# Altium footprint library transistor-fet.PCBLIB: 45 footprints (part 1 of 3)
Each footprint in its own frame and in the unit in brackets; x right, y up, seen from the top. Pads: shape width x height; smd on the part's side, far side on the other; paste and mask are expansions set on the pad; w line width, h text height; cw(c..) or ccw(c..) is an arc to the next point about the centre after c.
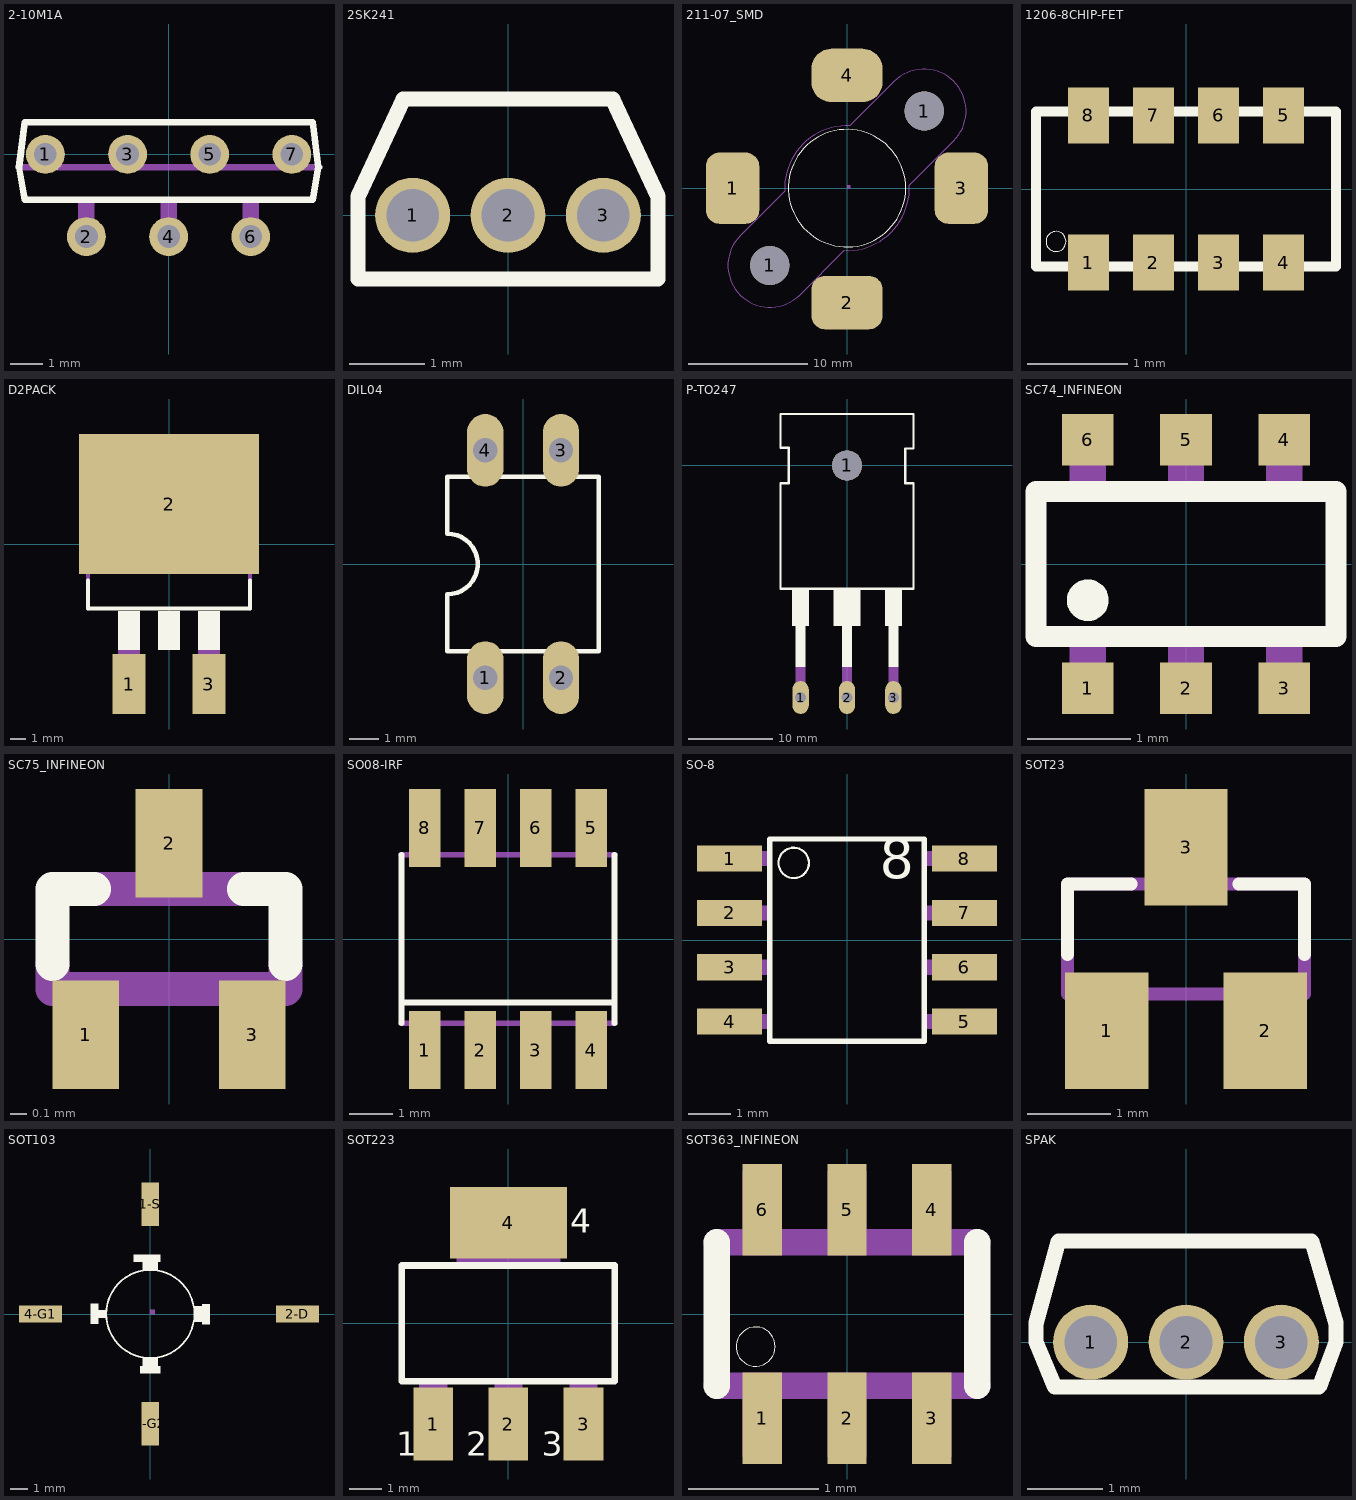
[diagram p0: the footprints below, top view; thin cyan lines are the x and y axes]

## 2-10M1A [mil]
pads (7):
  round 47.24 hole 27.56: 1(-150,0) 2(-100,-100) 3(-50,0) 4(0,-100) 5(50,0) 6(100,-100) 7(150,0)
Top Overlay:
  lines w8: 183.07,-15.75 182.09,-15.75 ; 182.09,-15.75 175.2,-55.12 -175.2,-55.12 -182.09,-15.75 -175.2,39.37 175.2,39.37 182.09,-15.75
Mechanical 16:
  rectangle: -110,-105 -90,-55
  rectangle: -10,-105 10,-55
  rectangle: 90,-105 110,-55
  lines w8: -182.09,-15.75 182.09,-15.75

## 2SK241 [mm]
pads (3):
  round 1 hole 0.7: 1(-1.27,0) 2(0,0) 3(1.27,0)
Top Overlay:
  lines w0.203: -1.4,1.55 1.4,1.55 ; -1.393,1.552 -2,0.25 -2,-0.85 2,-0.85 2,0.25 1.393,1.552

## 211-07_SMD [mm]
pads (6):
  rrect50% 4.5x6 smd: 1(-9.64,0) 3(9.64,0)
  round 3.3 hole 3.3: 1(-6.505,-6.505) 1(6.505,6.505)
  rrect50% 6x4.5 smd: 2(0,-9.64)
  rrect75% 6x4.5 smd: 4(0,9.505)
Top Overlay:
  circle w0: c0,0 r4.95
Bottom Overlay:
  circle w0: c0,0 r4.95
  lines w0.203: -8.715,-4.296 4.313,8.733 cw(c6.523,6.523) 8.715,4.296 -4.296,-8.715 cw(c-6.505,-6.505) -8.715,-4.296
Mechanical 1:
  lines w0: -9,-4 -5.25,-0.25 cw(c0.001,-0.001) 0.25,5.25 4,9 cw(c6.5,6.5) 9,4 5.25,0.25 cw(c-0.001,0.001) -0.25,-5.25 -4,-9 cw(c-6.5,-6.5) -9,-4
Mechanical 16:
  region: 0,0 0.254,0 0.254,0.254 0,0.254
  region: 0,0 0.254,0 0.254,0.254 0,0.254
  region: 0,0 0.254,0 0.254,0.254 0,0.254
  region: 0,0 0.254,0 0.254,0.254 0,0.254

## 1206-8CHIP-FET [mil]
pads (8):
  rect 15.98x22.05 smd: 1(-38.39,-29.03) 2(-12.8,-29.03) 3(12.8,-29.03) 4(38.39,-29.03) 5(38.39,29.03) 6(12.8,29.03) 7(-12.8,29.03) 8(-38.39,29.03)
Top Overlay:
  circle w0: c-51.18,-20.67 r3.94
  lines w4: -59.06,-30.51 59.06,-30.51 59.06,30.51 -59.06,30.51 -59.06,-30.51

## D2PACK [mil]
pads (3):
  rect 82x150 smd: 1(-100,-350) 3(100,-350)
  rect 450x350 smd: 2(0,100)
Top Overlay:
  rectangle: -128,-265 -72,-167
  rectangle: 72,-265 128,-167
  rectangle: -28,-265 28,-167
  lines w10: -202,-91 -202,-161 202,-161 202,-91
Mechanical 16:
  rectangle: -122,-375 -78,-319
  rectangle: -128,-321 -72,-265
  rectangle: 78,-375 122,-319
  rectangle: 72,-321 128,-265
  lines w10: -202,-161 -202,175 ; 202,-161 202,175 ; -202,175 -202,185 -133,229 123,229 202,175 ; -202,175 202,175

## DIL04 [mil]
pads (4):
  oval 48x96 hole 32: 1(-50,-150) 2(50,-150) 3(50,150) 4(-50,150)
Top Overlay:
  lines w6: -100,-115 100,-115 100,115 -100,115 -100,40 cw(c-100,0) -100,-40 -100,-115

## P-TO247 [mil]
pads (4):
  oval 76.77x153.54 hole 51.18: 1(-216.54,-1082.68) 2(0,-1082.68) 3(216.54,-1082.68)
  round 141.73 hole 141.73: 1(0,0)
Top Overlay:
  rectangle: -62.99,-748.03 62.99,-578.74
  rectangle: -255.91,-748.03 -177.17,-578.74
  rectangle: 177.17,-748.03 255.91,-578.74
  rectangle: -240.16,-940.94 -192.91,-748.03
  rectangle: -23.62,-940.94 23.62,-748.03
  rectangle: 192.91,-940.94 240.16,-748.03
  lines w10: -311.02,-574.8 311.02,-574.8 311.02,-82.68 271.65,-82.68 271.65,78.74 311.02,78.74 311.02,240.16 -311.02,240.16 -311.02,82.68 -271.65,82.68 -271.65,-82.68 -311.02,-82.68 -311.02,-574.8
Mechanical 16:
  rectangle: -23.62,-1082.68 23.62,-940.94
  rectangle: 192.91,-1082.68 240.16,-940.94
  rectangle: -240.16,-1082.68 -192.91,-940.94

## SC74_INFINEON [mil]
pads (6):
  rect 19.69x19.69 smd: 1(-37.4,-47.24) 2(0,-47.24) 3(37.4,-47.24) 4(37.4,47.24) 5(0,47.24) 6(-37.4,47.24)
Top Overlay:
  circle w8: c-37.4,-13.78 r3.94
  lines w8: -57.09,-27.56 -57.09,27.56 57.09,27.56 57.09,-27.56 -57.09,-27.56
Mechanical 16:
  rectangle: -44.29,-51.18 -30.51,-30.51
  rectangle: -6.89,-51.18 6.89,-30.51
  rectangle: 30.51,-51.18 44.29,-30.51
  rectangle: 30.51,30.51 44.29,51.18
  rectangle: -6.89,30.51 6.89,51.18
  rectangle: -44.29,30.51 -30.51,51.18

## SC75_INFINEON [mm]
pads (3):
  rect 0.4x0.65 smd: 1(-0.5,-0.575) 2(0,0.575) 3(0.5,-0.575)
Top Overlay:
  lines w0.203: -0.7,-0.15 -0.7,0.3 -0.45,0.3 ; 0.45,0.3 0.7,0.3 0.7,-0.15
Mechanical 16:
  rectangle: -0.6,-0.8 -0.4,-0.35
  rectangle: 0.4,-0.8 0.6,-0.35
  rectangle: -0.1,0.35 0.1,0.8
  lines w0.203: -0.7,-0.15 -0.7,-0.3 0.7,-0.3 0.7,-0.15 ; -0.45,0.3 0.45,0.3

## SO08-IRF [mil]
pads (8):
  rect 28.35x70.08 smd: 1(-75,-100.13) 2(-25,-100.13) 3(25,-100.13) 4(75,-100.13) 5(75,100.13) 6(25,100.13) 7(-25,100.13) 8(-75,100.13)
Top Overlay:
  lines w5: -95.95,-75.92 -95.95,-57.22 ; -95.95,75.92 -95.95,-57.22 ; 95.95,-75.92 95.95,-57.22 ; 95.95,75.92 95.95,-57.22 ; -95.95,-57.22 95.95,-57.22
Mechanical 16:
  region: -68,-122.04 -68,-77.92 -82,-77.92 -82,-122.04
  region: -18,-122.04 -18,-77.92 -32,-77.92 -32,-122.04
  region: 32,-122.04 32,-77.92 18,-77.92 18,-122.04
  region: 82,-122.04 82,-77.92 68,-77.92 68,-122.04
  region: -68,77.92 -68,122.04 -82,122.04 -82,77.92
  region: -18,77.92 -18,122.04 -32,122.04 -32,77.92
  region: 32,77.92 32,122.04 18,122.04 18,77.92
  region: 82,77.92 82,122.04 68,122.04 68,77.92
  lines w5: -95.95,-75.92 95.95,-75.92 ; -95.95,75.92 95.95,75.92

## SO-8 [mil]
pads (8):
  rect 60x24 smd: 1(-108,75) 2(-108,25) 3(-108,-25) 4(-108,-75) 5(108,-75) 6(108,-25) 7(108,25) 8(108,75)
Top Overlay:
  circle w2: c-49,71 r14
  lines w5: -71,-93 -71,93 71,93 71,-93 -71,-93
  text "8" at 30,45 h62
Mechanical 16:
  rectangle: -113,68 -73,82
  rectangle: -113,18 -73,32
  rectangle: -113,-32 -73,-18
  rectangle: -113,-82 -73,-68
  rectangle: 73,68 113,82
  rectangle: 73,18 113,32
  rectangle: 73,-32 113,-18
  rectangle: 73,-82 113,-68

## SOT23 [mm]
pads (3):
  rect 1x1.4 smd: 1(-0.95,-1.1) 2(0.95,-1.1) 3(0,1.1)
Top Overlay:
  lines w0.152: -1.422,-0.185 -1.422,0.66 -0.658,0.66 ; 0.633,0.66 1.422,0.66 1.422,-0.185
Mechanical 16:
  rectangle: -0.229,0.711 0.229,1.295
  rectangle: 0.711,-1.295 1.168,-0.711
  rectangle: -1.168,-1.295 -0.711,-0.711
  lines w0.152: -1.422,-0.66 1.422,-0.66 1.422,0.66 -1.422,0.66 -1.422,-0.66

## SOT103 [mm]
pads (4):
  rect 1x2.5 smd: 1-S(0,6.35) 3-G2(0,-6.35)
  rect 2.5x1 smd: 2-D(8.51,0) 4-G1(-6.35,0)
Top Overlay:
  circle w0.102: c0,0 r2.55
  region: 0.575,3 0.575,3.45 -0.975,3.45 -0.975,3
  region: -0.45,3.025 -0.45,2.55 0.45,2.55 0.45,3.025
  rectangle: 3,-0.6 3.45,0.575
  region: 3.025,0.45 2.55,0.45 2.55,-0.45 3.025,-0.45
  rectangle: -3.025,-0.225 -2.55,0.225
  region: -0.6,-3 -0.6,-3.45 0.575,-3.45 0.575,-3
  region: 0.45,-3.025 0.45,-2.55 -0.45,-2.55 -0.45,-3.025
  region: -3,0.6 -3.45,0.6 -3.45,-0.575 -3,-0.575
Mechanical 16:
  region: 0,0 0.254,0 0.254,0.254 0,0.254
  region: 0,0 0.254,0 0.254,0.254 0,0.254
  region: 0,0 0.254,0 0.254,0.254 0,0.254
  region: 0,0 0.254,0 0.254,0.254 0,0.254

## SOT223 [mil]
pads (4):
  rect 48x88 smd: 1(-91,-122) 2(0,-122) 3(91,-122)
  rect 141.73x86.61 smd: 4(0,122.01)
Top Overlay:
  lines w8: -129,-70 129,-70 129,70 -129,70 -129,-70
  text "3" at 40.19,-170 h49.6
  text "4" at 75,100 h49.6
  text "1" at -135.93,-170 h49.6
  text "2" at -50.81,-170.37 h49.6
Mechanical 16:
  rectangle: -63,71 63,144
  rectangle: -17,-144 17,-71
  rectangle: -108,-144 -74,-71
  rectangle: 74,-144 108,-71
  rectangle: -63,71 63,144
  rectangle: -17,-144 17,-71
  rectangle: -108,-144 -74,-71
  rectangle: 74,-144 108,-71

## SOT363_INFINEON [mil]
pads (6):
  rect 11.81x27.56 smd: 1(-25.59,-31.5) 2(0,-31.5) 3(25.59,-31.5) 4(25.59,31.5) 5(0,31.5) 6(-25.59,31.5)
Top Overlay:
  circle w0: c-27.56,-9.84 r5.91
  lines w8: -39.37,-21.65 -39.37,21.65 ; 39.37,-21.65 39.37,21.65
Mechanical 16:
  rectangle: -31.5,-43.31 -19.69,-23.62
  rectangle: -5.91,-43.31 5.91,-23.62
  rectangle: 19.69,-43.31 31.5,-23.62
  rectangle: 19.69,23.62 31.5,43.31
  rectangle: -5.91,23.62 5.91,43.31
  rectangle: -31.5,23.62 -19.69,43.31
  lines w8: -39.37,-21.65 39.37,-21.65 ; -39.37,21.65 39.37,21.65

## SPAK [mm]
pads (3):
  round 1 hole 0.7: 1(-1.27,0) 2(0,0) 3(1.27,0)
Top Overlay:
  lines w0.203: -2,0 -1.75,-0.6 1.775,-0.6 2,0 2,0.25 1.675,1.35 -1.7,1.35 -2,0.25 -2,0